# Altium schematic symbol library IR Mosfet.SchLib: 7 symbols
Pins are listed as number, name and electrical type; pins without a type are passive.

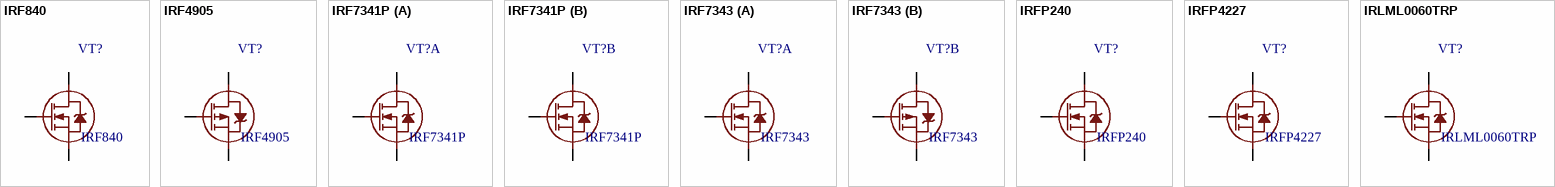
[diagram p0: symbols IRF840 to IRLML0060TRP]

## IRF840
designator VT?
footprint IRF840
footprint TO220-AB
pins: 1, 2, 3

## IRF4905
designator VT?
Power MOSFET P Chanel
footprint IRF840
pins: 1, 2, 3

## IRF7341P
designator VT?
Power MOSFET N/N Chanel
footprint ADI-R-8_N (SOIC, 8-Leads, Body 4.9x3.9mm, Pitch 1.27mm, IPC Medium Density)
part A pins: 1, 2, 8
part B pins: 3, 4, 6

## IRF7343
designator VT?
Power MOSFET N/P Chanel
footprint ADI-R-8_N (SOIC, 8-Leads, Body 4.9x3.9mm, Pitch 1.27mm, IPC Medium Density)
part A pins: 1, 2, 8
part B pins: 3, 4, 6

## IRFP240
designator VT?
footprint TO247-1
footprint TO247-2
footprint TO247-3
pins: 1, 2, 3

## IRFP4227
designator VT?
footprint TO247-1
footprint TO247-2
footprint TO247-3
pins: 1, 2, 3

## IRLML0060TRP
designator VT?
footprint SOT23 (SOT23, 3-Leads, Body 2,90x2,45mm, Pitch 0,95mm, IPC Medium Density)
pins: 1, 2, 3